# Altium schematic symbol library WCAP-ASNP.SchLib: 55 symbols (part 2 of 2)
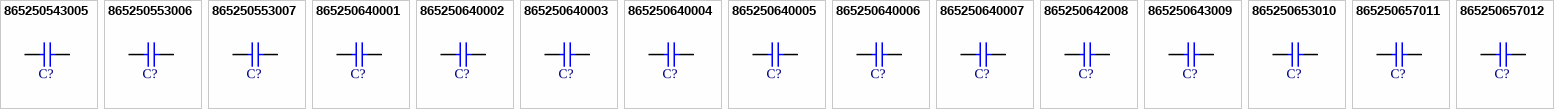
[diagram p2: symbols 865250543005 to 865250657012]

## 865250642008
designator C?, comment 4.7µF  (value not drawn)
WCAP-ASNP Aluminum Electrolytic Capacitor, V-Chip, SMT, D5 x H5.5mm, 4.7µF, 50V; Manufacturer Part Number: 865250642008; Manufacturer: Wurth Elektronik; Capacitance Tolerance: +/-20%; Dissipation Factor: 15%; Endurance: 2000h; Leakage Current: 11.75µA; Ripple Current: 20mA; Technical Reference: ASBC0554R7M050DVCTBB000; Category: Aluminum Electrolytic Capacitors; Match Code: WCAP-ASNP; ComponentLink1Description: Website Link; ComponentLink1URL: https://www.we-online.com/redexpert/article/865250642008?ad; ComponentLink2Description: Datasheet Link; ComponentLink2URL: https://www.we-online.com/redexpert/spec/865250642008?ad; Mount: Surface Mount; Operating Temperature Max: 85°C; Operating Temperature Min: -40°C; Packaging: Tape and Reel; Case/Size Code: D5 x H5.5mm; Height: 5.5mm; Diameter: 5mm; Capacitance: 4.7µF; Rated Voltage (DC): 50V
footprint WCAP-ASNP_D5H5.5
simulation model 865250642008_4.7uF
pins: 1, 2

## 865250643009
designator C?, comment 10µF  (value not drawn)
WCAP-ASNP Aluminum Electrolytic Capacitor, V-Chip, SMT, D6.3 x H5.5mm, 10µF, 50V; Manufacturer Part Number: 865250643009; Manufacturer: Wurth Elektronik; Capacitance Tolerance: +/-20%; Dissipation Factor: 15%; Endurance: 2000h; Leakage Current: 25µA; Ripple Current: 32mA; Technical Reference: ASBD055100M050DVCTBB000; Category: Aluminum Electrolytic Capacitors; Match Code: WCAP-ASNP; ComponentLink1Description: Website Link; ComponentLink1URL: https://www.we-online.com/redexpert/article/865250643009?ad; ComponentLink2Description: Datasheet Link; ComponentLink2URL: https://www.we-online.com/redexpert/spec/865250643009?ad; Mount: Surface Mount; Operating Temperature Max: 85°C; Operating Temperature Min: -40°C; Packaging: Tape and Reel; Case/Size Code: D6.3 x H5.5mm; Height: 5.5mm; Diameter: 6.3mm; Capacitance: 10µF; Rated Voltage (DC): 50V
footprint WCAP-ASNP_D6.3H5.5
simulation model 865250643009_10uF
pins: 1, 2

## 865250653010
designator C?, comment 22µF  (value not drawn)
WCAP-ASNP Aluminum Electrolytic Capacitor, V-Chip, SMT, D8 x H10.5mm, 22µF, 50V; Manufacturer Part Number: 865250653010; Manufacturer: Wurth Elektronik; Capacitance Tolerance: +/-20%; Dissipation Factor: 15%; Endurance: 2000h; Leakage Current: 55µA; Ripple Current: 60mA; Technical Reference: ASBE105220M050DVCTEB000; Category: Aluminum Electrolytic Capacitors; Match Code: WCAP-ASNP; ComponentLink1Description: Website Link; ComponentLink1URL: https://www.we-online.com/redexpert/article/865250653010?ad; ComponentLink2Description: Datasheet Link; ComponentLink2URL: https://www.we-online.com/redexpert/spec/865250653010?ad; Mount: Surface Mount; Operating Temperature Max: 85°C; Operating Temperature Min: -40°C; Packaging: Tape and Reel; Case/Size Code: D8 x H10.5mm; Height: 10.5mm; Diameter: 8mm; Capacitance: 22µF; Rated Voltage (DC): 50V
footprint WCAP-ASNP_D8H10.5
simulation model 865250653010_22uF
pins: 1, 2

## 865250657011
designator C?, comment 33µF  (value not drawn)
WCAP-ASNP Aluminum Electrolytic Capacitor, V-Chip, SMT, D10 x H10.5mm, 33µF, 50V; Manufacturer Part Number: 865250657011; Manufacturer: Wurth Elektronik; Capacitance Tolerance: +/-20%; Dissipation Factor: 15%; Endurance: 2000h; Leakage Current: 82.5µA; Ripple Current: 75mA; Technical Reference: ASBF105330M050DVCTEB000; Category: Aluminum Electrolytic Capacitors; Match Code: WCAP-ASNP; ComponentLink1Description: Website Link; ComponentLink1URL: https://www.we-online.com/redexpert/article/865250657011?ad; ComponentLink2Description: Datasheet Link; ComponentLink2URL: https://www.we-online.com/redexpert/spec/865250657011?ad; Mount: Surface Mount; Operating Temperature Max: 85°C; Operating Temperature Min: -40°C; Packaging: Tape and Reel; Case/Size Code: D10 x H10.5mm; Height: 10.5mm; Diameter: 10mm; Capacitance: 33µF; Rated Voltage (DC): 50V
footprint WCAP-ASNP_D10H10.5
simulation model 865250657011_33uF
pins: 1, 2

## 865250657012
designator C?, comment 47µF  (value not drawn)
WCAP-ASNP Aluminum Electrolytic Capacitor, V-Chip, SMT, D10 x H10.5mm, 47µF, 50V; Manufacturer Part Number: 865250657012; Manufacturer: Wurth Elektronik; Capacitance Tolerance: +/-20%; Dissipation Factor: 15%; Endurance: 2000h; Leakage Current: 117.5µA; Ripple Current: 100mA; Technical Reference: ASBF105470M050DVCTEB000; Category: Aluminum Electrolytic Capacitors; Match Code: WCAP-ASNP; ComponentLink1Description: Website Link; ComponentLink1URL: https://www.we-online.com/redexpert/article/865250657012?ad; ComponentLink2Description: Datasheet Link; ComponentLink2URL: https://www.we-online.com/redexpert/spec/865250657012?ad; Mount: Surface Mount; Operating Temperature Max: 85°C; Operating Temperature Min: -40°C; Packaging: Tape and Reel; Case/Size Code: D10 x H10.5mm; Height: 10.5mm; Diameter: 10mm; Capacitance: 47µF; Rated Voltage (DC): 50V
footprint WCAP-ASNP_D10H10.5
simulation model 865250657012_47uF
pins: 1, 2